# Altium integrated library Microchip PIC16 Part 2.IntLib: 1569 symbols (part 32 of 56)
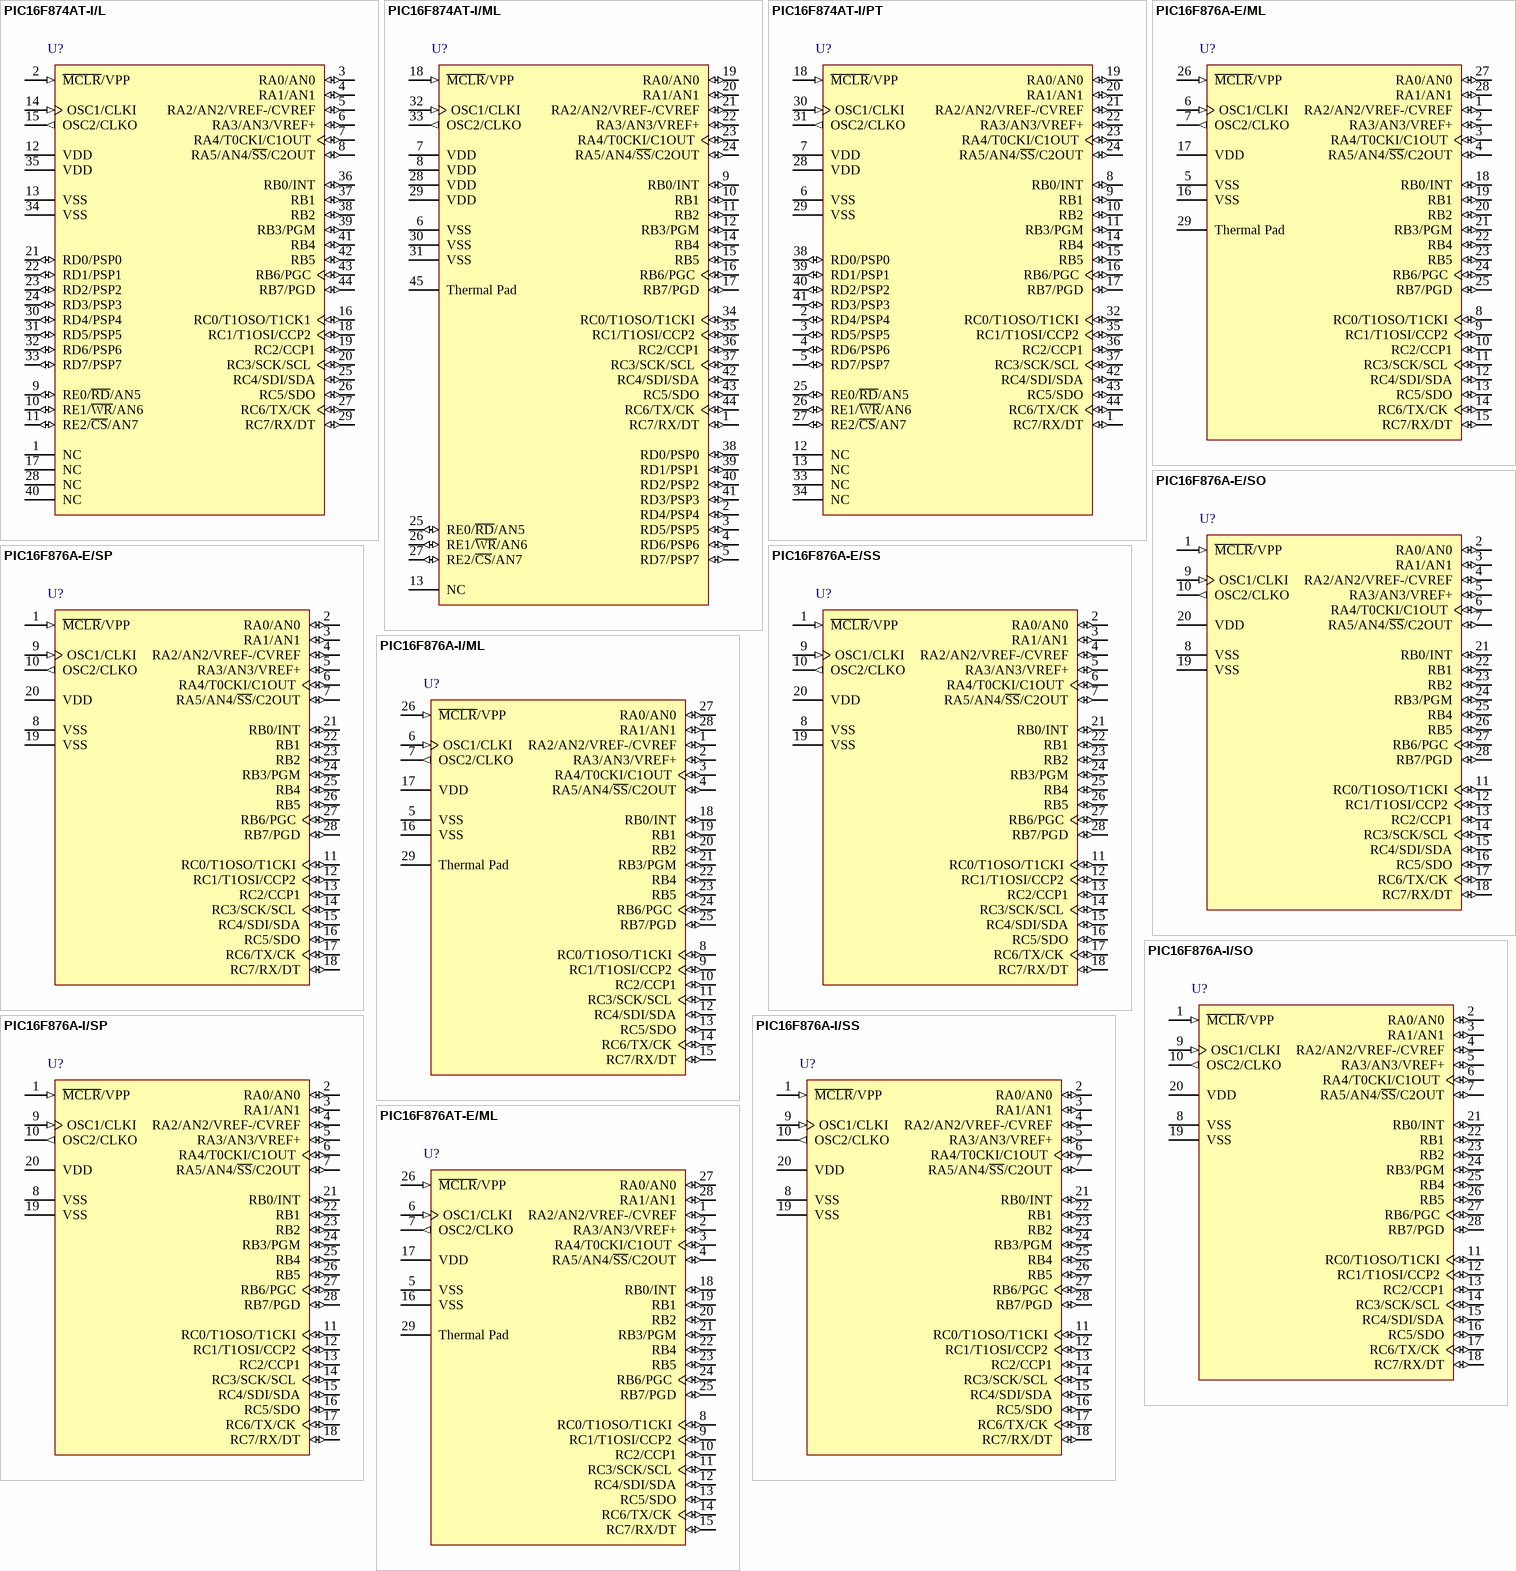
[diagram p156: symbols PIC16F874AT-I/L to PIC16F876AT-E/ML]

## PIC16F876A-E/SO
designator U?
Enhanced FLASH Microcontroller, 8K (x14-Bit words) FLASH, 368 Bytes RAM, 28-Pin SOIC, Standard VDD Range, Extended Temperature; Manufacturer: Microchip; PartNumber: PIC16F876A-E/SO; DatasheetVersion: revB, Oct-2003; PackageVersion: revBB, Aug-2009; PackageReference: SOIC-SO28; PackageDescription: 28-Lead Plastic Small Outline (SO) - Wide 7.50mm Body [SOIC]; Supplier 1: Digi-Key; Supplier Part Number 1: PIC16F876A-E/SO-ND; Supplier 2: Mouser; Supplier Part Number 2: 579-PIC16F876A-E/SO; Code_JEDEC: MS-013; ComponentLink1Description: Manufacturer URL; ComponentLink1URL: http://www.microchip.com/; ComponentLink2Description: Datasheet; ComponentLink2URL: http://ww1.microchip.com/downloads/en/DeviceDoc/39582b.pdf; ComponentLink3Description: Package Specification; ComponentLink3URL: http://www.microchip.com/stellent/groups/techpub_sg/documents/packagingspec/en012702.pdf
footprint SOIC-SO28_N (SOIC, 28-Leads, Body 17.9x7.5mm, Pitch 1.27mm, IPC Medium Density)
footprint SOIC-SO28_L (SOIC, 28-Leads, Body 17.9x7.5mm, Pitch 1.27mm, IPC High Density)
footprint SOIC-SO28_M (SOIC, 28-Leads, Body 17.9x7.5mm, Pitch 1.27mm, IPC Low Density)
pins: 1 ~{MCLR}/VPP (in), 2 RA0/AN0 (io), 3 RA1/AN1 (io), 4 RA2/AN2/VREF-/CVREF (io), 5 RA3/AN3/VREF+ (io), 6 RA4/T0CKI/C1OUT (io), 7 RA5/AN4/~{SS}/C2OUT (io), 8 VSS (power), 9 OSC1/CLKI (in), 10 OSC2/CLKO (out), 11 RC0/T1OSO/T1CKI (io), 12 RC1/T1OSI/CCP2 (io), 13 RC2/CCP1 (io), 14 RC3/SCK/SCL (io), 15 RC4/SDI/SDA (io), 16 RC5/SDO (io), 17 RC6/TX/CK (io), 18 RC7/RX/DT (io), 19 VSS (power), 20 VDD (power), 21 RB0/INT (io), 22 RB1 (io), 23 RB2 (io), 24 RB3/PGM (io), 25 RB4 (io), 26 RB5 (io), 27 RB6/PGC (io), 28 RB7/PGD (io)

## PIC16F876A-E/SP
designator U?
Enhanced FLASH Microcontroller, 8K (x14-Bit words) FLASH, 368 Bytes RAM, 28-Pin PDIP 300mil, Standard VDD Range, Extended Temperature; Manufacturer: Microchip; PartNumber: PIC16F876A-E/SP; DatasheetVersion: revB, Oct-2003; PackageVersion: revBB, Aug-2009; PackageReference: SPDIP300-SP28; PackageDescription: 28-Lead Skinny Plastic Dual In-Line (SP) - 300 mil Body [SPDIP]; Supplier 1: Digi-Key; Supplier Part Number 1: PIC16F876A-E/SP-ND; Supplier 2: Newark; Supplier Part Number 2: 92C4679; Supplier 3: Mouser; Supplier Part Number 3: 579-PIC16F876A-E/SP; ComponentLink1Description: Manufacturer URL; ComponentLink1URL: http://www.microchip.com/; ComponentLink2Description: Datasheet; ComponentLink2URL: http://ww1.microchip.com/downloads/en/DeviceDoc/39582b.pdf; ComponentLink3Description: Package Specification; ComponentLink3URL: http://www.microchip.com/stellent/groups/techpub_sg/documents/packagingspec/en012702.pdf
footprint SPDIP300-SP28 (DIP, 28-Leads, Row Spacing 7.62mm, Pitch 2.54mm, Body 34.9x6.8mm)
pins: 1 ~{MCLR}/VPP (in), 2 RA0/AN0 (io), 3 RA1/AN1 (io), 4 RA2/AN2/VREF-/CVREF (io), 5 RA3/AN3/VREF+ (io), 6 RA4/T0CKI/C1OUT (io), 7 RA5/AN4/~{SS}/C2OUT (io), 8 VSS (power), 9 OSC1/CLKI (in), 10 OSC2/CLKO (out), 11 RC0/T1OSO/T1CKI (io), 12 RC1/T1OSI/CCP2 (io), 13 RC2/CCP1 (io), 14 RC3/SCK/SCL (io), 15 RC4/SDI/SDA (io), 16 RC5/SDO (io), 17 RC6/TX/CK (io), 18 RC7/RX/DT (io), 19 VSS (power), 20 VDD (power), 21 RB0/INT (io), 22 RB1 (io), 23 RB2 (io), 24 RB3/PGM (io), 25 RB4 (io), 26 RB5 (io), 27 RB6/PGC (io), 28 RB7/PGD (io)

## PIC16F876A-E/SS
designator U?
Enhanced FLASH Microcontroller, 8K (x14-Bit words) FLASH, 368 Bytes RAM, 28-Pin SSOP, Standard VDD Range, Extended Temperature; Manufacturer: Microchip; PartNumber: PIC16F876A-E/SS; DatasheetVersion: revB, Oct-2003; PackageVersion: revBB, Aug-2009; PackageReference: SSOP-SS28; PackageDescription: 28-Lead Plastic Shrink Small Outline (SS) - 5.3mm Body [SSOP]; Supplier 1: Digi-Key; Supplier Part Number 1: PIC16F876A-E/SS-ND; Supplier 2: Mouser; Supplier Part Number 2: 579-PIC16F876A-E/SS; Code_JEDEC: MS-150; ComponentLink1Description: Manufacturer URL; ComponentLink1URL: http://www.microchip.com/; ComponentLink2Description: Datasheet; ComponentLink2URL: http://ww1.microchip.com/downloads/en/DeviceDoc/39582b.pdf; ComponentLink3Description: Package Specification; ComponentLink3URL: http://www.microchip.com/stellent/groups/techpub_sg/documents/packagingspec/en012702.pdf
footprint SSOP-SS28_N (SOP, 28-Leads, Body 10.2x5.2mm, Pitch 0.65mm, IPC Medium Density)
footprint SSOP-SS28_L (SOP, 28-Leads, Body 10.2x5.2mm, Pitch 0.65mm, IPC High Density)
footprint SSOP-SS28_M (SOP, 28-Leads, Body 10.2x5.2mm, Pitch 0.65mm, IPC Low Density)
pins: 1 ~{MCLR}/VPP (in), 2 RA0/AN0 (io), 3 RA1/AN1 (io), 4 RA2/AN2/VREF-/CVREF (io), 5 RA3/AN3/VREF+ (io), 6 RA4/T0CKI/C1OUT (io), 7 RA5/AN4/~{SS}/C2OUT (io), 8 VSS (power), 9 OSC1/CLKI (in), 10 OSC2/CLKO (out), 11 RC0/T1OSO/T1CKI (io), 12 RC1/T1OSI/CCP2 (io), 13 RC2/CCP1 (io), 14 RC3/SCK/SCL (io), 15 RC4/SDI/SDA (io), 16 RC5/SDO (io), 17 RC6/TX/CK (io), 18 RC7/RX/DT (io), 19 VSS (power), 20 VDD (power), 21 RB0/INT (io), 22 RB1 (io), 23 RB2 (io), 24 RB3/PGM (io), 25 RB4 (io), 26 RB5 (io), 27 RB6/PGC (io), 28 RB7/PGD (io)

## PIC16F876A-I/ML
designator U?
Enhanced FLASH Microcontroller, 8K (x14-Bit words) FLASH, 368 Bytes RAM, 28-Pin QFN, Standard VDD Range, Industrial Temperature; Manufacturer: Microchip; PartNumber: PIC16F876A-I/ML; DatasheetVersion: revB, Oct-2003; PackageVersion: revBB, Aug-2009; PackageReference: QFN-ML28; PackageDescription: 28-Lead Plastic Quad Flat, No Lead Package (ML) - 6x6 mm Body [QFN] with 0.55 mm Contact Length; Supplier 1: Digi-Key; Supplier Part Number 1: PIC16F876A-I/ML-ND; Supplier 2: Newark; Supplier Part Number 2: 96K3889; Supplier 3: Mouser; Supplier Part Number 3: 579-PIC16F876A-I/ML; Code_JEDEC: MO-220; ComponentLink1Description: Manufacturer URL; ComponentLink1URL: http://www.microchip.com/; ComponentLink2Description: Datasheet; ComponentLink2URL: http://ww1.microchip.com/downloads/en/DeviceDoc/39582b.pdf; ComponentLink3Description: Package Specification; ComponentLink3URL: http://www.microchip.com/stellent/groups/techpub_sg/documents/packagingspec/en012702.pdf
footprint QFN-ML28_N (QFN, 28-Leads, Body 6x6mm, Pitch 0.65mm, Thermal Pad 4.2x4.2mm, IPC Medium Density)
footprint QFN-ML28_L (QFN, 28-Leads, Body 6x6mm, Pitch 0.65mm, Thermal Pad 4.2x4.2mm, IPC High Density)
footprint QFN-ML28_M (QFN, 28-Leads, Body 6x6mm, Pitch 0.65mm, Thermal Pad 4.2x4.2mm, IPC Low Density)
pins: 1 RA2/AN2/VREF-/CVREF (io), 2 RA3/AN3/VREF+ (io), 3 RA4/T0CKI/C1OUT (io), 4 RA5/AN4/~{SS}/C2OUT (io), 5 VSS (power), 6 OSC1/CLKI (in), 7 OSC2/CLKO (out), 8 RC0/T1OSO/T1CKI (io), 9 RC1/T1OSI/CCP2 (io), 10 RC2/CCP1 (io), 11 RC3/SCK/SCL (io), 12 RC4/SDI/SDA (io), 13 RC5/SDO (io), 14 RC6/TX/CK (io), 15 RC7/RX/DT (io), 16 VSS (power), 17 VDD (power), 18 RB0/INT (io), 19 RB1 (io), 20 RB2 (io), 21 RB3/PGM (io), 22 RB4 (io), 23 RB5 (io), 24 RB6/PGC (io), 25 RB7/PGD (io), 26 ~{MCLR}/VPP (in), 27 RA0/AN0 (io), 28 RA1/AN1 (io), 29 Thermal Pad

## PIC16F876A-I/SO
designator U?
Enhanced FLASH Microcontroller, 8K (x14-Bit words) FLASH, 368 Bytes RAM, 28-Pin SOIC, Standard VDD Range, Industrial Temperature; Manufacturer: Microchip; PartNumber: PIC16F876A-I/SO; DatasheetVersion: revB, Oct-2003; PackageVersion: revBB, Aug-2009; PackageReference: SOIC-SO28; PackageDescription: 28-Lead Plastic Small Outline (SO) - Wide 7.50mm Body [SOIC]; Supplier 1: Digi-Key; Supplier Part Number 1: PIC16F876A-I/SO-ND; Supplier 2: Farnell; Supplier Part Number 2: 9761306MPKG; Supplier 3: Farnell; Supplier Part Number 3: 1660040; Supplier 4: Farnell; Supplier Part Number 4: 9761306; Supplier 5: Newark; Supplier Part Number 5: 89C2870; Supplier 6: Mouser; Supplier Part Number 6: 579-PIC16F876A-I/SO; Code_JEDEC: MS-013; ComponentLink1Description: Manufacturer URL; ComponentLink1URL: http://www.microchip.com/; ComponentLink2Description: Datasheet; ComponentLink2URL: http://ww1.microchip.com/downloads/en/DeviceDoc/39582b.pdf; ComponentLink3Description: Package Specification; ComponentLink3URL: http://www.microchip.com/stellent/groups/techpub_sg/documents/packagingspec/en012702.pdf
footprint SOIC-SO28_N (SOIC, 28-Leads, Body 17.9x7.5mm, Pitch 1.27mm, IPC Medium Density)
footprint SOIC-SO28_L (SOIC, 28-Leads, Body 17.9x7.5mm, Pitch 1.27mm, IPC High Density)
footprint SOIC-SO28_M (SOIC, 28-Leads, Body 17.9x7.5mm, Pitch 1.27mm, IPC Low Density)
pins: 1 ~{MCLR}/VPP (in), 2 RA0/AN0 (io), 3 RA1/AN1 (io), 4 RA2/AN2/VREF-/CVREF (io), 5 RA3/AN3/VREF+ (io), 6 RA4/T0CKI/C1OUT (io), 7 RA5/AN4/~{SS}/C2OUT (io), 8 VSS (power), 9 OSC1/CLKI (in), 10 OSC2/CLKO (out), 11 RC0/T1OSO/T1CKI (io), 12 RC1/T1OSI/CCP2 (io), 13 RC2/CCP1 (io), 14 RC3/SCK/SCL (io), 15 RC4/SDI/SDA (io), 16 RC5/SDO (io), 17 RC6/TX/CK (io), 18 RC7/RX/DT (io), 19 VSS (power), 20 VDD (power), 21 RB0/INT (io), 22 RB1 (io), 23 RB2 (io), 24 RB3/PGM (io), 25 RB4 (io), 26 RB5 (io), 27 RB6/PGC (io), 28 RB7/PGD (io)

## PIC16F876A-I/SP
designator U?
Enhanced FLASH Microcontroller, 8K (x14-Bit words) FLASH, 368 Bytes RAM, 28-Pin PDIP 300mil, Standard VDD Range, Industrial Temperature; Manufacturer: Microchip; PartNumber: PIC16F876A-I/SP; DatasheetVersion: revB, Oct-2003; PackageVersion: revBB, Aug-2009; PackageReference: SPDIP300-SP28; PackageDescription: 28-Lead Skinny Plastic Dual In-Line (SP) - 300 mil Body [SPDIP]; Supplier 1: Digi-Key; Supplier Part Number 1: PIC16F876A-I/SP-ND; Supplier 2: Farnell; Supplier Part Number 2: 1523962; Supplier 3: Farnell; Supplier Part Number 3: 9761314; Supplier 4: Newark; Supplier Part Number 4: 61K3462; Supplier 5: Mouser; Supplier Part Number 5: 579-PIC16F876A-I/SP; ComponentLink1Description: Manufacturer URL; ComponentLink1URL: http://www.microchip.com/; ComponentLink2Description: Datasheet; ComponentLink2URL: http://ww1.microchip.com/downloads/en/DeviceDoc/39582b.pdf; ComponentLink3Description: Package Specification; ComponentLink3URL: http://www.microchip.com/stellent/groups/techpub_sg/documents/packagingspec/en012702.pdf
footprint SPDIP300-SP28 (DIP, 28-Leads, Row Spacing 7.62mm, Pitch 2.54mm, Body 34.9x6.8mm)
pins: 1 ~{MCLR}/VPP (in), 2 RA0/AN0 (io), 3 RA1/AN1 (io), 4 RA2/AN2/VREF-/CVREF (io), 5 RA3/AN3/VREF+ (io), 6 RA4/T0CKI/C1OUT (io), 7 RA5/AN4/~{SS}/C2OUT (io), 8 VSS (power), 9 OSC1/CLKI (in), 10 OSC2/CLKO (out), 11 RC0/T1OSO/T1CKI (io), 12 RC1/T1OSI/CCP2 (io), 13 RC2/CCP1 (io), 14 RC3/SCK/SCL (io), 15 RC4/SDI/SDA (io), 16 RC5/SDO (io), 17 RC6/TX/CK (io), 18 RC7/RX/DT (io), 19 VSS (power), 20 VDD (power), 21 RB0/INT (io), 22 RB1 (io), 23 RB2 (io), 24 RB3/PGM (io), 25 RB4 (io), 26 RB5 (io), 27 RB6/PGC (io), 28 RB7/PGD (io)

## PIC16F876A-I/SS
designator U?
Enhanced FLASH Microcontroller, 8K (x14-Bit words) FLASH, 368 Bytes RAM, 28-Pin SSOP, Standard VDD Range, Industrial Temperature; Manufacturer: Microchip; PartNumber: PIC16F876A-I/SS; DatasheetVersion: revB, Oct-2003; PackageVersion: revBB, Aug-2009; PackageReference: SSOP-SS28; PackageDescription: 28-Lead Plastic Shrink Small Outline (SS) - 5.3mm Body [SSOP]; Supplier 1: Digi-Key; Supplier Part Number 1: PIC16F876A-I/SS-ND; Supplier 2: Farnell; Supplier Part Number 2: 9761322; Supplier 3: Farnell; Supplier Part Number 3: 1660041; Supplier 4: Farnell; Supplier Part Number 4: 9761322MPKG; Supplier 5: Newark; Supplier Part Number 5: 96K3890; Supplier 6: Mouser; Supplier Part Number 6: 579-PIC16F876A-I/SS; Code_JEDEC: MS-150; ComponentLink1Description: Manufacturer URL; ComponentLink1URL: http://www.microchip.com/; ComponentLink2Description: Datasheet; ComponentLink2URL: http://ww1.microchip.com/downloads/en/DeviceDoc/39582b.pdf; ComponentLink3Description: Package Specification; ComponentLink3URL: http://www.microchip.com/stellent/groups/techpub_sg/documents/packagingspec/en012702.pdf
footprint SSOP-SS28_N (SOP, 28-Leads, Body 10.2x5.2mm, Pitch 0.65mm, IPC Medium Density)
footprint SSOP-SS28_L (SOP, 28-Leads, Body 10.2x5.2mm, Pitch 0.65mm, IPC High Density)
footprint SSOP-SS28_M (SOP, 28-Leads, Body 10.2x5.2mm, Pitch 0.65mm, IPC Low Density)
pins: 1 ~{MCLR}/VPP (in), 2 RA0/AN0 (io), 3 RA1/AN1 (io), 4 RA2/AN2/VREF-/CVREF (io), 5 RA3/AN3/VREF+ (io), 6 RA4/T0CKI/C1OUT (io), 7 RA5/AN4/~{SS}/C2OUT (io), 8 VSS (power), 9 OSC1/CLKI (in), 10 OSC2/CLKO (out), 11 RC0/T1OSO/T1CKI (io), 12 RC1/T1OSI/CCP2 (io), 13 RC2/CCP1 (io), 14 RC3/SCK/SCL (io), 15 RC4/SDI/SDA (io), 16 RC5/SDO (io), 17 RC6/TX/CK (io), 18 RC7/RX/DT (io), 19 VSS (power), 20 VDD (power), 21 RB0/INT (io), 22 RB1 (io), 23 RB2 (io), 24 RB3/PGM (io), 25 RB4 (io), 26 RB5 (io), 27 RB6/PGC (io), 28 RB7/PGD (io)

## PIC16F876AT-E/ML
designator U?
Enhanced Flash Microcontroller, 8K (x14-Bit words) Program Memory, 624 Bytes Data Memory, 22 I/O pins, 28-Pin QFN, Standard VDD Range, Extended Temperature, Tape and Reel; Manufacturer: Microchip; PartNumber: PIC16F876AT-E/ML; DatasheetVersion: revB, Oct-2003; PackageVersion: revBB, Aug-2009; PackageReference: QFN-ML28; PackageDescription: 28-Lead Plastic Quad Flat, No Lead Package (ML) - 6x6 mm Body [QFN] with 0.55 mm Contact Length; Supplier 1: Digi-Key; Supplier Part Number 1: PIC16F876AT-E/ML-ND; Supplier 2: Mouser; Supplier Part Number 2: 579-PIC16F876AT-E/ML; Code_JEDEC: MO-220; ComponentLink1Description: Manufacturer URL; ComponentLink1URL: http://www.microchip.com/; ComponentLink2Description: Datasheet; ComponentLink2URL: http://ww1.microchip.com/downloads/en/DeviceDoc/39582b.pdf; ComponentLink3Description: Package Specification; ComponentLink3URL: http://www.microchip.com/stellent/groups/techpub_sg/documents/packagingspec/en012702.pdf
footprint QFN-ML28_N (QFN, 28-Leads, Body 6x6mm, Pitch 0.65mm, Thermal Pad 4.2x4.2mm, IPC Medium Density)
footprint QFN-ML28_L (QFN, 28-Leads, Body 6x6mm, Pitch 0.65mm, Thermal Pad 4.2x4.2mm, IPC High Density)
footprint QFN-ML28_M (QFN, 28-Leads, Body 6x6mm, Pitch 0.65mm, Thermal Pad 4.2x4.2mm, IPC Low Density)
pins: 1 RA2/AN2/VREF-/CVREF (io), 2 RA3/AN3/VREF+ (io), 3 RA4/T0CKI/C1OUT (io), 4 RA5/AN4/~{SS}/C2OUT (io), 5 VSS (power), 6 OSC1/CLKI (in), 7 OSC2/CLKO (out), 8 RC0/T1OSO/T1CKI (io), 9 RC1/T1OSI/CCP2 (io), 10 RC2/CCP1 (io), 11 RC3/SCK/SCL (io), 12 RC4/SDI/SDA (io), 13 RC5/SDO (io), 14 RC6/TX/CK (io), 15 RC7/RX/DT (io), 16 VSS (power), 17 VDD (power), 18 RB0/INT (io), 19 RB1 (io), 20 RB2 (io), 21 RB3/PGM (io), 22 RB4 (io), 23 RB5 (io), 24 RB6/PGC (io), 25 RB7/PGD (io), 26 ~{MCLR}/VPP (in), 27 RA0/AN0 (io), 28 RA1/AN1 (io), 29 Thermal Pad

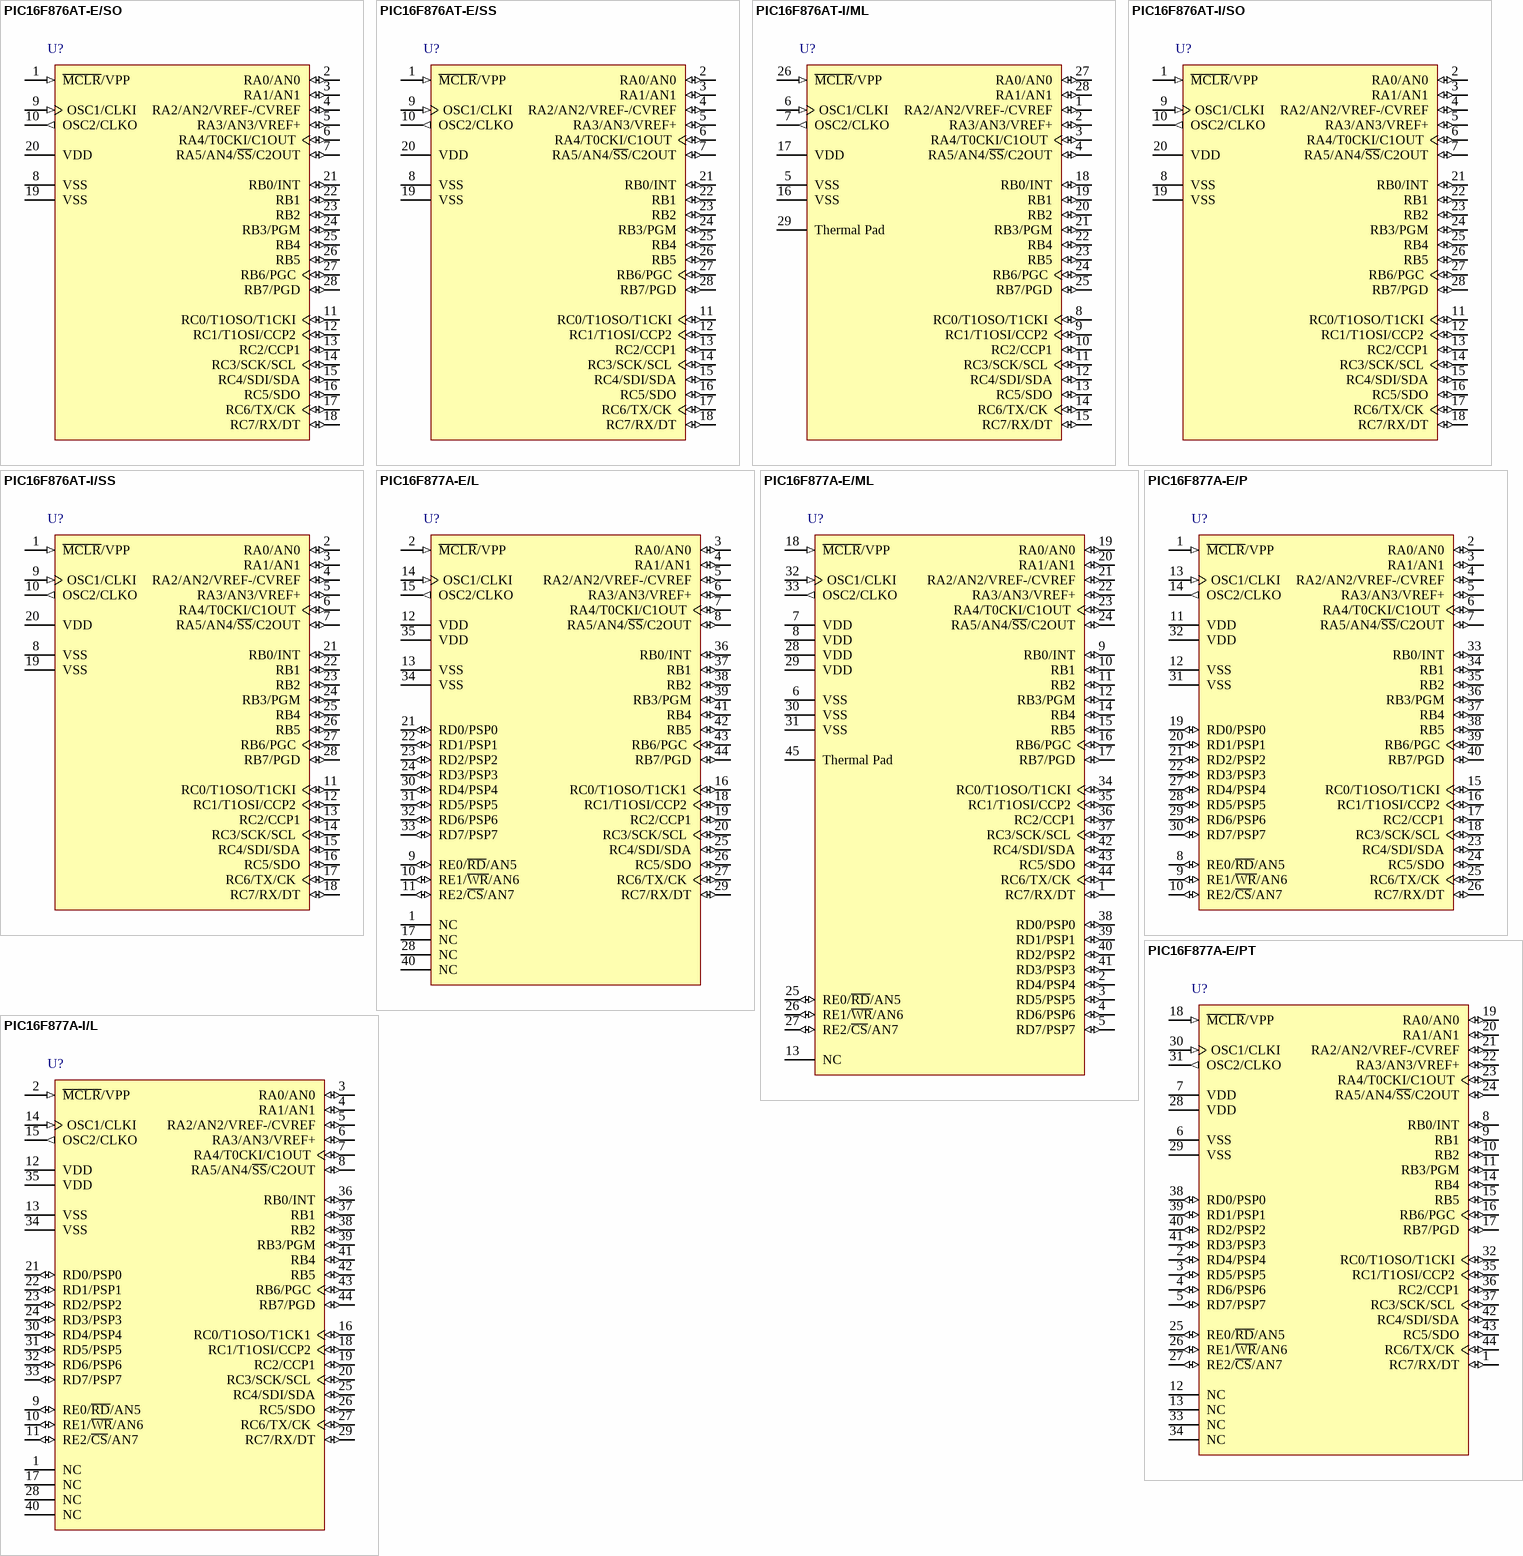
[diagram p64: symbols PIC16F876AT-E/SO to PIC16F877A-I/L]

## PIC16F876AT-E/SO
designator U?
Enhanced FLASH Microcontroller, 8K (x14-Bit words) FLASH, 368 Bytes RAM, 28-Pin SOIC, Standard VDD Range, Extended Temperature, Tape and Reel; Manufacturer: Microchip; PartNumber: PIC16F876AT-E/SO; DatasheetVersion: revB, Oct-2003; PackageVersion: revBB, Aug-2009; PackageReference: SOIC-SO28; PackageDescription: 28-Lead Plastic Small Outline (SO) - Wide 7.50mm Body [SOIC]; Supplier 1: Digi-Key; Supplier Part Number 1: PIC16F876AT-E/SO-ND; Supplier 2: Mouser; Supplier Part Number 2: 579-PIC16F876AT-E/SO; Code_JEDEC: MS-013; ComponentLink1Description: Manufacturer URL; ComponentLink1URL: http://www.microchip.com/; ComponentLink2Description: Datasheet; ComponentLink2URL: http://ww1.microchip.com/downloads/en/DeviceDoc/39582b.pdf; ComponentLink3Description: Package Specification; ComponentLink3URL: http://www.microchip.com/stellent/groups/techpub_sg/documents/packagingspec/en012702.pdf
footprint SOIC-SO28_N (SOIC, 28-Leads, Body 17.9x7.5mm, Pitch 1.27mm, IPC Medium Density)
footprint SOIC-SO28_L (SOIC, 28-Leads, Body 17.9x7.5mm, Pitch 1.27mm, IPC High Density)
footprint SOIC-SO28_M (SOIC, 28-Leads, Body 17.9x7.5mm, Pitch 1.27mm, IPC Low Density)
pins: 1 ~{MCLR}/VPP (in), 2 RA0/AN0 (io), 3 RA1/AN1 (io), 4 RA2/AN2/VREF-/CVREF (io), 5 RA3/AN3/VREF+ (io), 6 RA4/T0CKI/C1OUT (io), 7 RA5/AN4/~{SS}/C2OUT (io), 8 VSS (power), 9 OSC1/CLKI (in), 10 OSC2/CLKO (out), 11 RC0/T1OSO/T1CKI (io), 12 RC1/T1OSI/CCP2 (io), 13 RC2/CCP1 (io), 14 RC3/SCK/SCL (io), 15 RC4/SDI/SDA (io), 16 RC5/SDO (io), 17 RC6/TX/CK (io), 18 RC7/RX/DT (io), 19 VSS (power), 20 VDD (power), 21 RB0/INT (io), 22 RB1 (io), 23 RB2 (io), 24 RB3/PGM (io), 25 RB4 (io), 26 RB5 (io), 27 RB6/PGC (io), 28 RB7/PGD (io)

## PIC16F876AT-E/SS
designator U?
Enhanced Flash Microcontroller, 8K (x14-Bit words) Program Memory, 624 Bytes Data Memory, 22 I/O pins, 28-Pin SSOP, Standard VDD Range, Extended Temperature, Tape and Reel; Manufacturer: Microchip; PartNumber: PIC16F876AT-E/SS; DatasheetVersion: revB, Oct-2003; PackageVersion: revBB, Aug-2009; PackageReference: SSOP-SS28; PackageDescription: 28-Lead Plastic Shrink Small Outline (SS) - 5.3mm Body [SSOP]; Supplier 1: Digi-Key; Supplier Part Number 1: PIC16F876AT-E/SS-ND; Supplier 2: Mouser; Supplier Part Number 2: 579-PIC16F876AT-E/SS; Code_JEDEC: MS-150; ComponentLink1Description: Manufacturer URL; ComponentLink1URL: http://www.microchip.com/; ComponentLink2Description: Datasheet; ComponentLink2URL: http://ww1.microchip.com/downloads/en/DeviceDoc/39582b.pdf; ComponentLink3Description: Package Specification; ComponentLink3URL: http://www.microchip.com/stellent/groups/techpub_sg/documents/packagingspec/en012702.pdf
footprint SSOP-SS28_N (SOP, 28-Leads, Body 10.2x5.2mm, Pitch 0.65mm, IPC Medium Density)
footprint SSOP-SS28_L (SOP, 28-Leads, Body 10.2x5.2mm, Pitch 0.65mm, IPC High Density)
footprint SSOP-SS28_M (SOP, 28-Leads, Body 10.2x5.2mm, Pitch 0.65mm, IPC Low Density)
pins: 1 ~{MCLR}/VPP (in), 2 RA0/AN0 (io), 3 RA1/AN1 (io), 4 RA2/AN2/VREF-/CVREF (io), 5 RA3/AN3/VREF+ (io), 6 RA4/T0CKI/C1OUT (io), 7 RA5/AN4/~{SS}/C2OUT (io), 8 VSS (power), 9 OSC1/CLKI (in), 10 OSC2/CLKO (out), 11 RC0/T1OSO/T1CKI (io), 12 RC1/T1OSI/CCP2 (io), 13 RC2/CCP1 (io), 14 RC3/SCK/SCL (io), 15 RC4/SDI/SDA (io), 16 RC5/SDO (io), 17 RC6/TX/CK (io), 18 RC7/RX/DT (io), 19 VSS (power), 20 VDD (power), 21 RB0/INT (io), 22 RB1 (io), 23 RB2 (io), 24 RB3/PGM (io), 25 RB4 (io), 26 RB5 (io), 27 RB6/PGC (io), 28 RB7/PGD (io)

## PIC16F876AT-I/ML
designator U?
Enhanced Flash Microcontroller, 8K (x14-Bit words) Program Memory, 624 Bytes Data Memory, 22 I/O pins, 28-Pin QFN, Standard VDD Range, Industrial Temperature, Tape and Reel; Manufacturer: Microchip; PartNumber: PIC16F876AT-I/ML; DatasheetVersion: revB, Oct-2003; PackageVersion: revBB, Aug-2009; PackageReference: QFN-ML28; PackageDescription: 28-Lead Plastic Quad Flat, No Lead Package (ML) - 6x6 mm Body [QFN] with 0.55 mm Contact Length; Supplier 1: Digi-Key; Supplier Part Number 1: PIC16F876AT-I/ML-ND; Supplier 2: Mouser; Supplier Part Number 2: 579-PIC16F876AT-I/ML; Code_JEDEC: MO-220; ComponentLink1Description: Manufacturer URL; ComponentLink1URL: http://www.microchip.com/; ComponentLink2Description: Datasheet; ComponentLink2URL: http://ww1.microchip.com/downloads/en/DeviceDoc/39582b.pdf; ComponentLink3Description: Package Specification; ComponentLink3URL: http://www.microchip.com/stellent/groups/techpub_sg/documents/packagingspec/en012702.pdf
footprint QFN-ML28_N (QFN, 28-Leads, Body 6x6mm, Pitch 0.65mm, Thermal Pad 4.2x4.2mm, IPC Medium Density)
footprint QFN-ML28_L (QFN, 28-Leads, Body 6x6mm, Pitch 0.65mm, Thermal Pad 4.2x4.2mm, IPC High Density)
footprint QFN-ML28_M (QFN, 28-Leads, Body 6x6mm, Pitch 0.65mm, Thermal Pad 4.2x4.2mm, IPC Low Density)
pins: 1 RA2/AN2/VREF-/CVREF (io), 2 RA3/AN3/VREF+ (io), 3 RA4/T0CKI/C1OUT (io), 4 RA5/AN4/~{SS}/C2OUT (io), 5 VSS (power), 6 OSC1/CLKI (in), 7 OSC2/CLKO (out), 8 RC0/T1OSO/T1CKI (io), 9 RC1/T1OSI/CCP2 (io), 10 RC2/CCP1 (io), 11 RC3/SCK/SCL (io), 12 RC4/SDI/SDA (io), 13 RC5/SDO (io), 14 RC6/TX/CK (io), 15 RC7/RX/DT (io), 16 VSS (power), 17 VDD (power), 18 RB0/INT (io), 19 RB1 (io), 20 RB2 (io), 21 RB3/PGM (io), 22 RB4 (io), 23 RB5 (io), 24 RB6/PGC (io), 25 RB7/PGD (io), 26 ~{MCLR}/VPP (in), 27 RA0/AN0 (io), 28 RA1/AN1 (io), 29 Thermal Pad

## PIC16F876AT-I/SO
designator U?
Enhanced FLASH Microcontroller, 8K (x14-Bit words) FLASH, 368 Bytes RAM, 28-Pin SOIC, Standard VDD Range, Industrial Temperature, Tape and Reel; Manufacturer: Microchip; PartNumber: PIC16F876AT-I/SO; DatasheetVersion: revB, Oct-2003; PackageVersion: revBB, Aug-2009; PackageReference: SOIC-SO28; PackageDescription: 28-Lead Plastic Small Outline (SO) - Wide 7.50mm Body [SOIC]; Supplier 1: Digi-Key; Supplier Part Number 1: PIC16F876AT-I/SO-ND; Supplier 2: Mouser; Supplier Part Number 2: 579-PIC16F876AT-I/SO; Code_JEDEC: MS-013; ComponentLink1Description: Manufacturer URL; ComponentLink1URL: http://www.microchip.com/; ComponentLink2Description: Datasheet; ComponentLink2URL: http://ww1.microchip.com/downloads/en/DeviceDoc/39582b.pdf; ComponentLink3Description: Package Specification; ComponentLink3URL: http://www.microchip.com/stellent/groups/techpub_sg/documents/packagingspec/en012702.pdf
footprint SOIC-SO28_N (SOIC, 28-Leads, Body 17.9x7.5mm, Pitch 1.27mm, IPC Medium Density)
footprint SOIC-SO28_L (SOIC, 28-Leads, Body 17.9x7.5mm, Pitch 1.27mm, IPC High Density)
footprint SOIC-SO28_M (SOIC, 28-Leads, Body 17.9x7.5mm, Pitch 1.27mm, IPC Low Density)
pins: 1 ~{MCLR}/VPP (in), 2 RA0/AN0 (io), 3 RA1/AN1 (io), 4 RA2/AN2/VREF-/CVREF (io), 5 RA3/AN3/VREF+ (io), 6 RA4/T0CKI/C1OUT (io), 7 RA5/AN4/~{SS}/C2OUT (io), 8 VSS (power), 9 OSC1/CLKI (in), 10 OSC2/CLKO (out), 11 RC0/T1OSO/T1CKI (io), 12 RC1/T1OSI/CCP2 (io), 13 RC2/CCP1 (io), 14 RC3/SCK/SCL (io), 15 RC4/SDI/SDA (io), 16 RC5/SDO (io), 17 RC6/TX/CK (io), 18 RC7/RX/DT (io), 19 VSS (power), 20 VDD (power), 21 RB0/INT (io), 22 RB1 (io), 23 RB2 (io), 24 RB3/PGM (io), 25 RB4 (io), 26 RB5 (io), 27 RB6/PGC (io), 28 RB7/PGD (io)

## PIC16F876AT-I/SS
designator U?
Enhanced Flash Microcontroller, 8K (x14-Bit words) Program Memory, 624 Bytes Data Memory, 22 I/O pins, 28-Pin SSOP, Standard VDD Range, Industrial Temperature, Tape and Reel; Manufacturer: Microchip; PartNumber: PIC16F876AT-I/SS; DatasheetVersion: revB, Oct-2003; PackageVersion: revBB, Aug-2009; PackageReference: SSOP-SS28; PackageDescription: 28-Lead Plastic Shrink Small Outline (SS) - 5.3mm Body [SSOP]; Supplier 1: Digi-Key; Supplier Part Number 1: PIC16F876AT-I/SS-ND; Supplier 2: Mouser; Supplier Part Number 2: 579-PIC16F876AT-I/SS; Code_JEDEC: MS-150; ComponentLink1Description: Manufacturer URL; ComponentLink1URL: http://www.microchip.com/; ComponentLink2Description: Datasheet; ComponentLink2URL: http://ww1.microchip.com/downloads/en/DeviceDoc/39582b.pdf; ComponentLink3Description: Package Specification; ComponentLink3URL: http://www.microchip.com/stellent/groups/techpub_sg/documents/packagingspec/en012702.pdf
footprint SSOP-SS28_N (SOP, 28-Leads, Body 10.2x5.2mm, Pitch 0.65mm, IPC Medium Density)
footprint SSOP-SS28_L (SOP, 28-Leads, Body 10.2x5.2mm, Pitch 0.65mm, IPC High Density)
footprint SSOP-SS28_M (SOP, 28-Leads, Body 10.2x5.2mm, Pitch 0.65mm, IPC Low Density)
pins: 1 ~{MCLR}/VPP (in), 2 RA0/AN0 (io), 3 RA1/AN1 (io), 4 RA2/AN2/VREF-/CVREF (io), 5 RA3/AN3/VREF+ (io), 6 RA4/T0CKI/C1OUT (io), 7 RA5/AN4/~{SS}/C2OUT (io), 8 VSS (power), 9 OSC1/CLKI (in), 10 OSC2/CLKO (out), 11 RC0/T1OSO/T1CKI (io), 12 RC1/T1OSI/CCP2 (io), 13 RC2/CCP1 (io), 14 RC3/SCK/SCL (io), 15 RC4/SDI/SDA (io), 16 RC5/SDO (io), 17 RC6/TX/CK (io), 18 RC7/RX/DT (io), 19 VSS (power), 20 VDD (power), 21 RB0/INT (io), 22 RB1 (io), 23 RB2 (io), 24 RB3/PGM (io), 25 RB4 (io), 26 RB5 (io), 27 RB6/PGC (io), 28 RB7/PGD (io)

## PIC16F877A-E/L
designator U?
Enhanced FLASH Microcontroller, 8K (x14-Bit words) FLASH, 368 Bytes RAM, 44-Pin PLCC, Standard VDD Range, Extended Temperature; Manufacturer: Microchip; PartNumber: PIC16F877A-E/L; Note: Connect thermal vias to inner or bottom layers to remove heat.; DatasheetVersion: revB, Oct-2003; PackageVersion: revBB, Aug-2009; PackageReference: PLCC-L44; PackageDescription: 44-Lead Plastic Leaded Chip Carrier (L) - Square [PLCC]; Supplier 1: Digi-Key; Supplier Part Number 1: PIC16F877A-E/L-ND; Supplier 2: Mouser; Supplier Part Number 2: 579-PIC16F877A-E/L; Code_JEDEC: MO-047; Code_IPC: PLCC-44; ComponentLink1Description: Manufacturer URL; ComponentLink1URL: http://www.microchip.com/; ComponentLink2Description: Datasheet; ComponentLink2URL: http://ww1.microchip.com/downloads/en/DeviceDoc/39582b.pdf; ComponentLink3Description: Package Specification; ComponentLink3URL: http://www.microchip.com/stellent/groups/techpub_sg/documents/packagingspec/en012702.pdf
footprint PLCC-L44_N (Leaded Chip Carrier, 44-Leads, Body 16.6x16.6mm, Pitch 1.27mm, IPC Medium Density)
footprint PLCC-L44_L (Leaded Chip Carrier, 44-Leads, Body 16.6x16.6mm, Pitch 1.27mm, IPC High Density)
footprint PLCC-L44_M (Leaded Chip Carrier, 44-Leads, Body 16.6x16.6mm, Pitch 1.27mm, IPC Low Density)
pins: 1 NC, 2 ~{MCLR}/VPP (in), 3 RA0/AN0 (io), 4 RA1/AN1 (io), 5 RA2/AN2/VREF-/CVREF (io), 6 RA3/AN3/VREF+ (io), 7 RA4/T0CKI/C1OUT (io), 8 RA5/AN4/~{SS}/C2OUT (io), 9 RE0/~{RD}/AN5 (io), 10 RE1/~{WR}/AN6 (io), 11 RE2/~{CS}/AN7 (io), 12 VDD (power), 13 VSS (power), 14 OSC1/CLKI (in), 15 OSC2/CLKO (out), 16 RC0/T1OSO/T1CK1 (io), 17 NC, 18 RC1/T1OSI/CCP2 (io), 19 RC2/CCP1 (io), 20 RC3/SCK/SCL (io), 21 RD0/PSP0 (io), 22 RD1/PSP1 (io), 23 RD2/PSP2 (io), 24 RD3/PSP3 (io), 25 RC4/SDI/SDA (io), 26 RC5/SDO (io), 27 RC6/TX/CK (io), 28 NC, 29 RC7/RX/DT (io), 30 RD4/PSP4 (io), 31 RD5/PSP5 (io), 32 RD6/PSP6 (io), 33 RD7/PSP7 (io), 34 VSS (power), 35 VDD (power), 36 RB0/INT (io), 37 RB1 (io), 38 RB2 (io), 39 RB3/PGM (io), 40 NC, 41 RB4 (io), 42 RB5 (io), 43 RB6/PGC (io), 44 RB7/PGD (io)

## PIC16F877A-E/ML
designator U?
Enhanced FLASH Microcontroller, 8K (x14-Bit words) FLASH, 368 Bytes RAM, 44-Pin QFN, Standard VDD Range, Extended Temperature; Manufacturer: Microchip; PartNumber: PIC16F877A-E/ML; DatasheetVersion: revB, Oct-2003; PackageVersion: revBB, Aug-2009; PackageReference: QFN-ML44; PackageDescription: 44-Lead Plastic Quad Flat, No Lead Package (ML) - 8x8 mm Body [QFN]; Supplier 1: Digi-Key; Supplier Part Number 1: PIC16F877A-E/ML-ND; Supplier 2: Mouser; Supplier Part Number 2: 579-PIC16F877A-E/ML; Code_JEDEC: MO-220; Code_IPC: QFN65P800X800-44V2; ComponentLink1Description: Manufacturer URL; ComponentLink1URL: http://www.microchip.com/; ComponentLink2Description: Datasheet; ComponentLink2URL: http://ww1.microchip.com/downloads/en/DeviceDoc/39582b.pdf; ComponentLink3Description: Package Specification; ComponentLink3URL: http://www.microchip.com/stellent/groups/techpub_sg/documents/packagingspec/en012702.pdf
footprint QFN-ML44_N (QFN, 44-Leads, Body 8x8mm, Pitch 0.65mm, Thermal Pad 6.8x6.8mm, IPC Medium Density)
footprint QFN-ML44_L (QFN, 44-Leads, Body 8x8mm, Pitch 0.65mm, Thermal Pad 6.8x6.8mm, IPC High Density)
footprint QFN-ML44_M (QFN, 44-Leads, Body 8x8mm, Pitch 0.65mm, Thermal Pad 6.8x6.8mm, IPC Low Density)
pins: 1 RC7/RX/DT (io), 2 RD4/PSP4 (io), 3 RD5/PSP5 (io), 4 RD6/PSP6 (io), 5 RD7/PSP7 (io), 6 VSS (power), 7 VDD (power), 8 VDD (power), 9 RB0/INT (io), 10 RB1 (io), 11 RB2 (io), 12 RB3/PGM (io), 13 NC, 14 RB4 (io), 15 RB5 (io), 16 RB6/PGC (io), 17 RB7/PGD (io), 18 ~{MCLR}/VPP (in), 19 RA0/AN0 (io), 20 RA1/AN1 (io), 21 RA2/AN2/VREF-/CVREF (io), 22 RA3/AN3/VREF+ (io), 23 RA4/T0CKI/C1OUT (io), 24 RA5/AN4/~{SS}/C2OUT (io), 25 RE0/~{RD}/AN5 (io), 26 RE1/~{WR}/AN6 (io), 27 RE2/~{CS}/AN7 (io), 28 VDD (power), 29 VDD (power), 30 VSS (power), 31 VSS (power), 32 OSC1/CLKI (in), 33 OSC2/CLKO (out), 34 RC0/T1OSO/T1CKI (io), 35 RC1/T1OSI/CCP2 (io), 36 RC2/CCP1 (io), 37 RC3/SCK/SCL (io), 38 RD0/PSP0 (io), 39 RD1/PSP1 (io), 40 RD2/PSP2 (io), 41 RD3/PSP3 (io), 42 RC4/SDI/SDA (io), 43 RC5/SDO (io), 44 RC6/TX/CK (io), 45 Thermal Pad

## PIC16F877A-E/P
designator U?
Enhanced FLASH Microcontroller, 8K (x14-Bit words) FLASH, 368 Bytes RAM, 40-Pin PDIP, Standard VDD Range, Extended Temperature; Manufacturer: Microchip; PartNumber: PIC16F877A-E/P; DatasheetVersion: revB, Oct-2003; PackageVersion: revBB, Aug-2009; PackageReference: PDIP600-P40; PackageDescription: 40-Lead Plastic Dual In-Line (P) - 600 mil Body [PDIP]; Supplier 1: Digi-Key; Supplier Part Number 1: PIC16F877A-E/P-ND; Supplier 2: Newark; Supplier Part Number 2: 92C4704; Supplier 3: Mouser; Supplier Part Number 3: 579-PIC16F877A-E/P; ComponentLink1Description: Manufacturer URL; ComponentLink1URL: http://www.microchip.com/; ComponentLink2Description: Datasheet; ComponentLink2URL: http://ww1.microchip.com/downloads/en/DeviceDoc/39582b.pdf; ComponentLink3Description: Package Specification; ComponentLink3URL: http://www.microchip.com/stellent/groups/techpub_sg/documents/packagingspec/en012702.pdf
footprint PDIP600-P40 (DIP, 40-Leads, Row Spacing 15.24mm, Pitch 2.54mm, Body 51.8x13.5mm)
pins: 1 ~{MCLR}/VPP (in), 2 RA0/AN0 (io), 3 RA1/AN1 (io), 4 RA2/AN2/VREF-/CVREF (io), 5 RA3/AN3/VREF+ (io), 6 RA4/T0CKI/C1OUT (io), 7 RA5/AN4/~{SS}/C2OUT (io), 8 RE0/~{RD}/AN5 (io), 9 RE1/~{WR}/AN6 (io), 10 RE2/~{CS}/AN7 (io), 11 VDD (power), 12 VSS (power), 13 OSC1/CLKI (in), 14 OSC2/CLKO (out), 15 RC0/T1OSO/T1CKI (io), 16 RC1/T1OSI/CCP2 (io), 17 RC2/CCP1 (io), 18 RC3/SCK/SCL (io), 19 RD0/PSP0 (io), 20 RD1/PSP1 (io), 21 RD2/PSP2 (io), 22 RD3/PSP3 (io), 23 RC4/SDI/SDA (io), 24 RC5/SDO (io), 25 RC6/TX/CK (io), 26 RC7/RX/DT (io), 27 RD4/PSP4 (io), 28 RD5/PSP5 (io), 29 RD6/PSP6 (io), 30 RD7/PSP7 (io), 31 VSS (power), 32 VDD (power), 33 RB0/INT (io), 34 RB1 (io), 35 RB2 (io), 36 RB3/PGM (io), 37 RB4 (io), 38 RB5 (io), 39 RB6/PGC (io), 40 RB7/PGD (io)

## PIC16F877A-E/PT
designator U?
Enhanced FLASH Microcontroller, 8K (x14-Bit words) FLASH, 368 Bytes RAM, 44-Pin TQFP, Standard VDD Range, Extended Temperature; Manufacturer: Microchip; PartNumber: PIC16F877A-E/PT; DatasheetVersion: revB, Oct-2003; PackageVersion: revBB, Aug-2009; PackageReference: TQFP-PT44; PackageDescription: 44-Lead Plastic Thin Quad Flatpack (PT) - 10x10x1mm Body, 2.00mm [TQFP]; Supplier 1: Digi-Key; Supplier Part Number 1: PIC16F877A-E/PT-ND; Supplier 2: Newark; Supplier Part Number 2: 92C4705; Supplier 3: Mouser; Supplier Part Number 3: 579-PIC16F877A-E/PT; Code_JEDEC: MS-026; ComponentLink1Description: Manufacturer URL; ComponentLink1URL: http://www.microchip.com/; ComponentLink2Description: Datasheet; ComponentLink2URL: http://ww1.microchip.com/downloads/en/DeviceDoc/39582b.pdf; ComponentLink3Description: Package Specification; ComponentLink3URL: http://www.microchip.com/stellent/groups/techpub_sg/documents/packagingspec/en012702.pdf
footprint TQFP-PT44_N (Thin QFP, 44-Leads, Body 10x10mm, Pitch 0.8mm, IPC Medium Density)
footprint TQFP-PT44_L (Thin QFP, 44-Leads, Body 10x10mm, Pitch 0.8mm, IPC High Density)
footprint TQFP-PT44_M (Thin QFP, 44-Leads, Body 10x10mm, Pitch 0.8mm, IPC Low Density)
pins: 1 RC7/RX/DT (io), 2 RD4/PSP4 (io), 3 RD5/PSP5 (io), 4 RD6/PSP6 (io), 5 RD7/PSP7 (io), 6 VSS (power), 7 VDD (power), 8 RB0/INT (io), 9 RB1 (io), 10 RB2 (io), 11 RB3/PGM (io), 12 NC, 13 NC, 14 RB4 (io), 15 RB5 (io), 16 RB6/PGC (io), 17 RB7/PGD (io), 18 ~{MCLR}/VPP (in), 19 RA0/AN0 (io), 20 RA1/AN1 (io), 21 RA2/AN2/VREF-/CVREF (io), 22 RA3/AN3/VREF+ (io), 23 RA4/T0CKI/C1OUT (io), 24 RA5/AN4/~{SS}/C2OUT (io), 25 RE0/~{RD}/AN5 (io), 26 RE1/~{WR}/AN6 (io), 27 RE2/~{CS}/AN7 (io), 28 VDD (power), 29 VSS (power), 30 OSC1/CLKI (in), 31 OSC2/CLKO (out), 32 RC0/T1OSO/T1CKI (io), 33 NC, 34 NC, 35 RC1/T1OSI/CCP2 (io), 36 RC2/CCP1 (io), 37 RC3/SCK/SCL (io), 38 RD0/PSP0 (io), 39 RD1/PSP1 (io), 40 RD2/PSP2 (io), 41 RD3/PSP3 (io), 42 RC4/SDI/SDA (io), 43 RC5/SDO (io), 44 RC6/TX/CK (io)

## PIC16F877A-I/L
designator U?
Enhanced FLASH Microcontroller, 8K (x14-Bit words) FLASH, 368 Bytes RAM, 44-Pin PLCC, Standard VDD Range, Industrial Temperature; Manufacturer: Microchip; PartNumber: PIC16F877A-I/L; Note: Connect thermal vias to inner or bottom layers to remove heat.; DatasheetVersion: revB, Oct-2003; PackageVersion: revBB, Aug-2009; PackageReference: PLCC-L44; PackageDescription: 44-Lead Plastic Leaded Chip Carrier (L) - Square [PLCC]; Supplier 1: Digi-Key; Supplier Part Number 1: PIC16F877A-I/L-ND; Supplier 2: Farnell; Supplier Part Number 2: 9761438; Supplier 3: Farnell; Supplier Part Number 3: 9761438MPKG; Supplier 4: Farnell; Supplier Part Number 4: 1660043; Supplier 5: Newark; Supplier Part Number 5: 89C2872; Supplier 6: Mouser; Supplier Part Number 6: 579-PIC16F877A-I/L; Code_JEDEC: MO-047; Code_IPC: PLCC-44; ComponentLink1Description: Manufacturer URL; ComponentLink1URL: http://www.microchip.com/; ComponentLink2Description: Datasheet; ComponentLink2URL: http://ww1.microchip.com/downloads/en/DeviceDoc/39582b.pdf; ComponentLink3Description: Package Specification; ComponentLink3URL: http://www.microchip.com/stellent/groups/techpub_sg/documents/packagingspec/en012702.pdf
footprint PLCC-L44_N (Leaded Chip Carrier, 44-Leads, Body 16.6x16.6mm, Pitch 1.27mm, IPC Medium Density)
footprint PLCC-L44_L (Leaded Chip Carrier, 44-Leads, Body 16.6x16.6mm, Pitch 1.27mm, IPC High Density)
footprint PLCC-L44_M (Leaded Chip Carrier, 44-Leads, Body 16.6x16.6mm, Pitch 1.27mm, IPC Low Density)
pins: 1 NC, 2 ~{MCLR}/VPP (in), 3 RA0/AN0 (io), 4 RA1/AN1 (io), 5 RA2/AN2/VREF-/CVREF (io), 6 RA3/AN3/VREF+ (io), 7 RA4/T0CKI/C1OUT (io), 8 RA5/AN4/~{SS}/C2OUT (io), 9 RE0/~{RD}/AN5 (io), 10 RE1/~{WR}/AN6 (io), 11 RE2/~{CS}/AN7 (io), 12 VDD (power), 13 VSS (power), 14 OSC1/CLKI (in), 15 OSC2/CLKO (out), 16 RC0/T1OSO/T1CK1 (io), 17 NC, 18 RC1/T1OSI/CCP2 (io), 19 RC2/CCP1 (io), 20 RC3/SCK/SCL (io), 21 RD0/PSP0 (io), 22 RD1/PSP1 (io), 23 RD2/PSP2 (io), 24 RD3/PSP3 (io), 25 RC4/SDI/SDA (io), 26 RC5/SDO (io), 27 RC6/TX/CK (io), 28 NC, 29 RC7/RX/DT (io), 30 RD4/PSP4 (io), 31 RD5/PSP5 (io), 32 RD6/PSP6 (io), 33 RD7/PSP7 (io), 34 VSS (power), 35 VDD (power), 36 RB0/INT (io), 37 RB1 (io), 38 RB2 (io), 39 RB3/PGM (io), 40 NC, 41 RB4 (io), 42 RB5 (io), 43 RB6/PGC (io), 44 RB7/PGD (io)

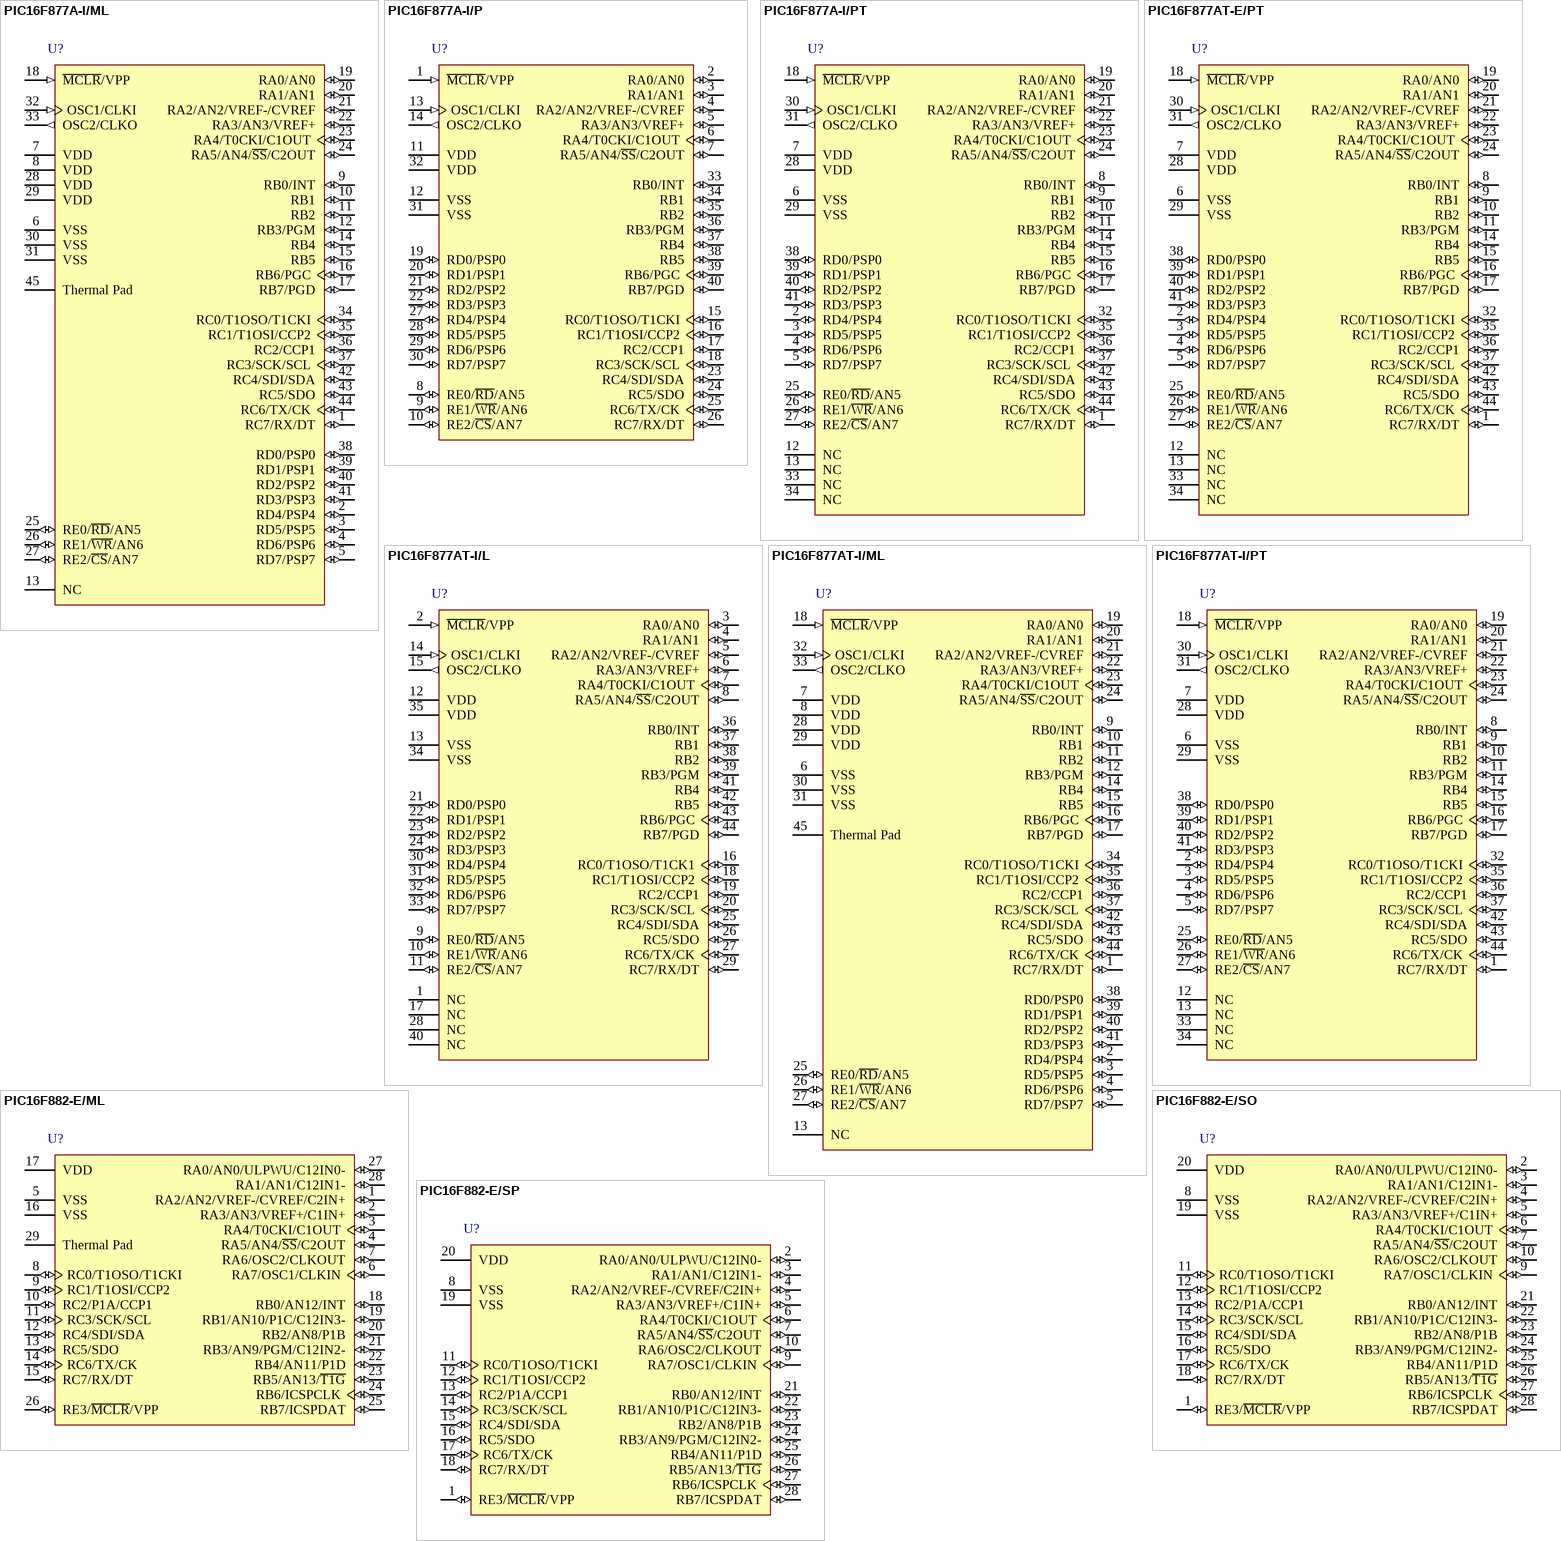
[diagram p65: symbols PIC16F877A-I/ML to PIC16F882-E/SP]

## PIC16F877A-I/ML
designator U?
Enhanced FLASH Microcontroller, 8K (x14-Bit words) FLASH, 368 Bytes RAM, 44-Pin QFN, Standard VDD Range, Industrial Temperature; Manufacturer: Microchip; PartNumber: PIC16F877A-I/ML; DatasheetVersion: revB, Oct-2003; PackageVersion: revBB, Aug-2009; PackageReference: QFN-ML44; PackageDescription: 44-Lead Plastic Quad Flat, No Lead Package (ML) - 8x8 mm Body [QFN]; Supplier 1: Digi-Key; Supplier Part Number 1: PIC16F877A-I/ML-ND; Supplier 2: Newark; Supplier Part Number 2: 29H9661; Supplier 3: Mouser; Supplier Part Number 3: 579-PIC16F877A-I/ML; Code_JEDEC: MO-220; Code_IPC: QFN65P800X800-44V2; ComponentLink1Description: Manufacturer URL; ComponentLink1URL: http://www.microchip.com/; ComponentLink2Description: Datasheet; ComponentLink2URL: http://ww1.microchip.com/downloads/en/DeviceDoc/39582b.pdf; ComponentLink3Description: Package Specification; ComponentLink3URL: http://www.microchip.com/stellent/groups/techpub_sg/documents/packagingspec/en012702.pdf
footprint QFN-ML44_N (QFN, 44-Leads, Body 8x8mm, Pitch 0.65mm, Thermal Pad 6.8x6.8mm, IPC Medium Density)
footprint QFN-ML44_L (QFN, 44-Leads, Body 8x8mm, Pitch 0.65mm, Thermal Pad 6.8x6.8mm, IPC High Density)
footprint QFN-ML44_M (QFN, 44-Leads, Body 8x8mm, Pitch 0.65mm, Thermal Pad 6.8x6.8mm, IPC Low Density)
pins: 1 RC7/RX/DT (io), 2 RD4/PSP4 (io), 3 RD5/PSP5 (io), 4 RD6/PSP6 (io), 5 RD7/PSP7 (io), 6 VSS (power), 7 VDD (power), 8 VDD (power), 9 RB0/INT (io), 10 RB1 (io), 11 RB2 (io), 12 RB3/PGM (io), 13 NC, 14 RB4 (io), 15 RB5 (io), 16 RB6/PGC (io), 17 RB7/PGD (io), 18 ~{MCLR}/VPP (in), 19 RA0/AN0 (io), 20 RA1/AN1 (io), 21 RA2/AN2/VREF-/CVREF (io), 22 RA3/AN3/VREF+ (io), 23 RA4/T0CKI/C1OUT (io), 24 RA5/AN4/~{SS}/C2OUT (io), 25 RE0/~{RD}/AN5 (io), 26 RE1/~{WR}/AN6 (io), 27 RE2/~{CS}/AN7 (io), 28 VDD (power), 29 VDD (power), 30 VSS (power), 31 VSS (power), 32 OSC1/CLKI (in), 33 OSC2/CLKO (out), 34 RC0/T1OSO/T1CKI (io), 35 RC1/T1OSI/CCP2 (io), 36 RC2/CCP1 (io), 37 RC3/SCK/SCL (io), 38 RD0/PSP0 (io), 39 RD1/PSP1 (io), 40 RD2/PSP2 (io), 41 RD3/PSP3 (io), 42 RC4/SDI/SDA (io), 43 RC5/SDO (io), 44 RC6/TX/CK (io), 45 Thermal Pad

## PIC16F877A-I/P
designator U?
Enhanced FLASH Microcontroller, 8K (x14-Bit words) FLASH, 368 Bytes RAM, 40-Pin PDIP, Standard VDD Range, Industrial Temperature; Manufacturer: Microchip; PartNumber: PIC16F877A-I/P; DatasheetVersion: revB, Oct-2003; PackageVersion: revBB, Aug-2009; PackageReference: PDIP600-P40; PackageDescription: 40-Lead Plastic Dual In-Line (P) - 600 mil Body [PDIP]; Supplier 1: Digi-Key; Supplier Part Number 1: PIC16F877A-I/P-ND; Supplier 2: Farnell; Supplier Part Number 2: 9761446; Supplier 3: Farnell; Supplier Part Number 3: 1523966; Supplier 4: Newark; Supplier Part Number 4: 69K7640; Supplier 5: Mouser; Supplier Part Number 5: 579-PIC16F877A-I/P; ComponentLink1Description: Manufacturer URL; ComponentLink1URL: http://www.microchip.com/; ComponentLink2Description: Datasheet; ComponentLink2URL: http://ww1.microchip.com/downloads/en/DeviceDoc/39582b.pdf; ComponentLink3Description: Package Specification; ComponentLink3URL: http://www.microchip.com/stellent/groups/techpub_sg/documents/packagingspec/en012702.pdf
footprint PDIP600-P40 (DIP, 40-Leads, Row Spacing 15.24mm, Pitch 2.54mm, Body 51.8x13.5mm)
pins: 1 ~{MCLR}/VPP (in), 2 RA0/AN0 (io), 3 RA1/AN1 (io), 4 RA2/AN2/VREF-/CVREF (io), 5 RA3/AN3/VREF+ (io), 6 RA4/T0CKI/C1OUT (io), 7 RA5/AN4/~{SS}/C2OUT (io), 8 RE0/~{RD}/AN5 (io), 9 RE1/~{WR}/AN6 (io), 10 RE2/~{CS}/AN7 (io), 11 VDD (power), 12 VSS (power), 13 OSC1/CLKI (in), 14 OSC2/CLKO (out), 15 RC0/T1OSO/T1CKI (io), 16 RC1/T1OSI/CCP2 (io), 17 RC2/CCP1 (io), 18 RC3/SCK/SCL (io), 19 RD0/PSP0 (io), 20 RD1/PSP1 (io), 21 RD2/PSP2 (io), 22 RD3/PSP3 (io), 23 RC4/SDI/SDA (io), 24 RC5/SDO (io), 25 RC6/TX/CK (io), 26 RC7/RX/DT (io), 27 RD4/PSP4 (io), 28 RD5/PSP5 (io), 29 RD6/PSP6 (io), 30 RD7/PSP7 (io), 31 VSS (power), 32 VDD (power), 33 RB0/INT (io), 34 RB1 (io), 35 RB2 (io), 36 RB3/PGM (io), 37 RB4 (io), 38 RB5 (io), 39 RB6/PGC (io), 40 RB7/PGD (io)

## PIC16F877A-I/PT
designator U?
Enhanced FLASH Microcontroller, 8K (x14-Bit words) FLASH, 368 Bytes RAM, 44-Pin TQFP, Standard VDD Range, Industrial Temperature; Manufacturer: Microchip; PartNumber: PIC16F877A-I/PT; DatasheetVersion: revB, Oct-2003; PackageVersion: revBB, Aug-2009; PackageReference: TQFP-PT44; PackageDescription: 44-Lead Plastic Thin Quad Flatpack (PT) - 10x10x1mm Body, 2.00mm [TQFP]; Supplier 1: Digi-Key; Supplier Part Number 1: PIC16F877A-I/PT-ND; Supplier 2: Farnell; Supplier Part Number 2: 9761454; Supplier 3: Farnell; Supplier Part Number 3: 9761454MPKG; Supplier 4: Farnell; Supplier Part Number 4: 1528478; Supplier 5: Newark; Supplier Part Number 5: 89C2873; Supplier 6: Mouser; Supplier Part Number 6: 579-PIC16F877A-I/PT; Code_JEDEC: MS-026; ComponentLink1Description: Manufacturer URL; ComponentLink1URL: http://www.microchip.com/; ComponentLink2Description: Datasheet; ComponentLink2URL: http://ww1.microchip.com/downloads/en/DeviceDoc/39582b.pdf; ComponentLink3Description: Package Specification; ComponentLink3URL: http://www.microchip.com/stellent/groups/techpub_sg/documents/packagingspec/en012702.pdf
footprint TQFP-PT44_N (Thin QFP, 44-Leads, Body 10x10mm, Pitch 0.8mm, IPC Medium Density)
footprint TQFP-PT44_L (Thin QFP, 44-Leads, Body 10x10mm, Pitch 0.8mm, IPC High Density)
footprint TQFP-PT44_M (Thin QFP, 44-Leads, Body 10x10mm, Pitch 0.8mm, IPC Low Density)
pins: 1 RC7/RX/DT (io), 2 RD4/PSP4 (io), 3 RD5/PSP5 (io), 4 RD6/PSP6 (io), 5 RD7/PSP7 (io), 6 VSS (power), 7 VDD (power), 8 RB0/INT (io), 9 RB1 (io), 10 RB2 (io), 11 RB3/PGM (io), 12 NC, 13 NC, 14 RB4 (io), 15 RB5 (io), 16 RB6/PGC (io), 17 RB7/PGD (io), 18 ~{MCLR}/VPP (in), 19 RA0/AN0 (io), 20 RA1/AN1 (io), 21 RA2/AN2/VREF-/CVREF (io), 22 RA3/AN3/VREF+ (io), 23 RA4/T0CKI/C1OUT (io), 24 RA5/AN4/~{SS}/C2OUT (io), 25 RE0/~{RD}/AN5 (io), 26 RE1/~{WR}/AN6 (io), 27 RE2/~{CS}/AN7 (io), 28 VDD (power), 29 VSS (power), 30 OSC1/CLKI (in), 31 OSC2/CLKO (out), 32 RC0/T1OSO/T1CKI (io), 33 NC, 34 NC, 35 RC1/T1OSI/CCP2 (io), 36 RC2/CCP1 (io), 37 RC3/SCK/SCL (io), 38 RD0/PSP0 (io), 39 RD1/PSP1 (io), 40 RD2/PSP2 (io), 41 RD3/PSP3 (io), 42 RC4/SDI/SDA (io), 43 RC5/SDO (io), 44 RC6/TX/CK (io)

## PIC16F877AT-E/PT
designator U?
Enhanced Flash Microcontroller, 8K (x14-Bit words) Program Memory, 624 Bytes Data Memory, 33 I/O pins, 44-Pin TQFP, Standard VDD Range, Extended Temperature, Tape and Reel; Manufacturer: Microchip; PartNumber: PIC16F877AT-E/PT; DatasheetVersion: revB, Oct-2003; PackageVersion: revBB, Aug-2009; PackageReference: TQFP-PT44; PackageDescription: 44-Lead Plastic Thin Quad Flatpack (PT) - 10x10x1mm Body, 2.00mm [TQFP]; Supplier 1: Mouser; Supplier Part Number 1: 579-PIC16F877AT-E/PT; Code_JEDEC: MS-026; ComponentLink1Description: Manufacturer URL; ComponentLink1URL: http://www.microchip.com/; ComponentLink2Description: Datasheet; ComponentLink2URL: http://ww1.microchip.com/downloads/en/DeviceDoc/39582b.pdf; ComponentLink3Description: Package Specification; ComponentLink3URL: http://www.microchip.com/stellent/groups/techpub_sg/documents/packagingspec/en012702.pdf
footprint TQFP-PT44_N (Thin QFP, 44-Leads, Body 10x10mm, Pitch 0.8mm, IPC Medium Density)
footprint TQFP-PT44_L (Thin QFP, 44-Leads, Body 10x10mm, Pitch 0.8mm, IPC High Density)
footprint TQFP-PT44_M (Thin QFP, 44-Leads, Body 10x10mm, Pitch 0.8mm, IPC Low Density)
pins: 1 RC7/RX/DT (io), 2 RD4/PSP4 (io), 3 RD5/PSP5 (io), 4 RD6/PSP6 (io), 5 RD7/PSP7 (io), 6 VSS (power), 7 VDD (power), 8 RB0/INT (io), 9 RB1 (io), 10 RB2 (io), 11 RB3/PGM (io), 12 NC, 13 NC, 14 RB4 (io), 15 RB5 (io), 16 RB6/PGC (io), 17 RB7/PGD (io), 18 ~{MCLR}/VPP (in), 19 RA0/AN0 (io), 20 RA1/AN1 (io), 21 RA2/AN2/VREF-/CVREF (io), 22 RA3/AN3/VREF+ (io), 23 RA4/T0CKI/C1OUT (io), 24 RA5/AN4/~{SS}/C2OUT (io), 25 RE0/~{RD}/AN5 (io), 26 RE1/~{WR}/AN6 (io), 27 RE2/~{CS}/AN7 (io), 28 VDD (power), 29 VSS (power), 30 OSC1/CLKI (in), 31 OSC2/CLKO (out), 32 RC0/T1OSO/T1CKI (io), 33 NC, 34 NC, 35 RC1/T1OSI/CCP2 (io), 36 RC2/CCP1 (io), 37 RC3/SCK/SCL (io), 38 RD0/PSP0 (io), 39 RD1/PSP1 (io), 40 RD2/PSP2 (io), 41 RD3/PSP3 (io), 42 RC4/SDI/SDA (io), 43 RC5/SDO (io), 44 RC6/TX/CK (io)

## PIC16F877AT-I/L
designator U?
Enhanced FLASH Microcontroller, 8K (x14-Bit words) FLASH, 368 Bytes RAM, 44-Pin PLCC, Standard VDD Range, Industrial Temperature, Tape and Reel; Manufacturer: Microchip; PartNumber: PIC16F877AT-I/L; DatasheetVersion: revB, Oct-2003; PackageVersion: revBB, Aug-2009; PackageReference: PLCC-L44; PackageDescription: 44-Lead Plastic Leaded Chip Carrier (L) - Square [PLCC]; Supplier 1: Digi-Key; Supplier Part Number 1: PIC16F877AT-I/L-ND; Supplier 2: Mouser; Supplier Part Number 2: 579-PIC16F877AT-I/L; Code_JEDEC: MO-047; Code_IPC: PLCC-44; ComponentLink1Description: Manufacturer URL; ComponentLink1URL: http://www.microchip.com/; ComponentLink2Description: Datasheet; ComponentLink2URL: http://ww1.microchip.com/downloads/en/DeviceDoc/39582b.pdf; ComponentLink3Description: Package Specification; ComponentLink3URL: http://www.microchip.com/stellent/groups/techpub_sg/documents/packagingspec/en012702.pdf
footprint PLCC-L44_N (Leaded Chip Carrier, 44-Leads, Body 16.6x16.6mm, Pitch 1.27mm, IPC Medium Density)
footprint PLCC-L44_L (Leaded Chip Carrier, 44-Leads, Body 16.6x16.6mm, Pitch 1.27mm, IPC High Density)
footprint PLCC-L44_M (Leaded Chip Carrier, 44-Leads, Body 16.6x16.6mm, Pitch 1.27mm, IPC Low Density)
pins: 1 NC, 2 ~{MCLR}/VPP (in), 3 RA0/AN0 (io), 4 RA1/AN1 (io), 5 RA2/AN2/VREF-/CVREF (io), 6 RA3/AN3/VREF+ (io), 7 RA4/T0CKI/C1OUT (io), 8 RA5/AN4/~{SS}/C2OUT (io), 9 RE0/~{RD}/AN5 (io), 10 RE1/~{WR}/AN6 (io), 11 RE2/~{CS}/AN7 (io), 12 VDD (power), 13 VSS (power), 14 OSC1/CLKI (in), 15 OSC2/CLKO (out), 16 RC0/T1OSO/T1CK1 (io), 17 NC, 18 RC1/T1OSI/CCP2 (io), 19 RC2/CCP1 (io), 20 RC3/SCK/SCL (io), 21 RD0/PSP0 (io), 22 RD1/PSP1 (io), 23 RD2/PSP2 (io), 24 RD3/PSP3 (io), 25 RC4/SDI/SDA (io), 26 RC5/SDO (io), 27 RC6/TX/CK (io), 28 NC, 29 RC7/RX/DT (io), 30 RD4/PSP4 (io), 31 RD5/PSP5 (io), 32 RD6/PSP6 (io), 33 RD7/PSP7 (io), 34 VSS (power), 35 VDD (power), 36 RB0/INT (io), 37 RB1 (io), 38 RB2 (io), 39 RB3/PGM (io), 40 NC, 41 RB4 (io), 42 RB5 (io), 43 RB6/PGC (io), 44 RB7/PGD (io)

## PIC16F877AT-I/ML
designator U?
Enhanced Flash Microcontroller, 8K (x14-Bit words) Program Memory, 624 Bytes Data Memory, 33 I/O pins, 44-Pin QFN, Standard VDD Range, Industrial Temperature, Tape and Reel; Manufacturer: Microchip; PartNumber: PIC16F877AT-I/ML; DatasheetVersion: revB, Oct-2003; PackageVersion: revBB, Aug-2009; PackageReference: QFN-ML44; PackageDescription: 44-Lead Plastic Quad Flat, No Lead Package (ML) - 8x8 mm Body [QFN]; Supplier 1: Digi-Key; Supplier Part Number 1: PIC16F877AT-I/ML-ND; Supplier 2: Mouser; Supplier Part Number 2: 579-PIC16F877AT-I/ML; Code_JEDEC: MO-220; Code_IPC: QFN65P800X800-44V2; ComponentLink1Description: Manufacturer URL; ComponentLink1URL: http://www.microchip.com/; ComponentLink2Description: Datasheet; ComponentLink2URL: http://ww1.microchip.com/downloads/en/DeviceDoc/39582b.pdf; ComponentLink3Description: Package Specification; ComponentLink3URL: http://www.microchip.com/stellent/groups/techpub_sg/documents/packagingspec/en012702.pdf
footprint QFN-ML44_N (QFN, 44-Leads, Body 8x8mm, Pitch 0.65mm, Thermal Pad 6.8x6.8mm, IPC Medium Density)
footprint QFN-ML44_L (QFN, 44-Leads, Body 8x8mm, Pitch 0.65mm, Thermal Pad 6.8x6.8mm, IPC High Density)
footprint QFN-ML44_M (QFN, 44-Leads, Body 8x8mm, Pitch 0.65mm, Thermal Pad 6.8x6.8mm, IPC Low Density)
pins: 1 RC7/RX/DT (io), 2 RD4/PSP4 (io), 3 RD5/PSP5 (io), 4 RD6/PSP6 (io), 5 RD7/PSP7 (io), 6 VSS (power), 7 VDD (power), 8 VDD (power), 9 RB0/INT (io), 10 RB1 (io), 11 RB2 (io), 12 RB3/PGM (io), 13 NC, 14 RB4 (io), 15 RB5 (io), 16 RB6/PGC (io), 17 RB7/PGD (io), 18 ~{MCLR}/VPP (in), 19 RA0/AN0 (io), 20 RA1/AN1 (io), 21 RA2/AN2/VREF-/CVREF (io), 22 RA3/AN3/VREF+ (io), 23 RA4/T0CKI/C1OUT (io), 24 RA5/AN4/~{SS}/C2OUT (io), 25 RE0/~{RD}/AN5 (io), 26 RE1/~{WR}/AN6 (io), 27 RE2/~{CS}/AN7 (io), 28 VDD (power), 29 VDD (power), 30 VSS (power), 31 VSS (power), 32 OSC1/CLKI (in), 33 OSC2/CLKO (out), 34 RC0/T1OSO/T1CKI (io), 35 RC1/T1OSI/CCP2 (io), 36 RC2/CCP1 (io), 37 RC3/SCK/SCL (io), 38 RD0/PSP0 (io), 39 RD1/PSP1 (io), 40 RD2/PSP2 (io), 41 RD3/PSP3 (io), 42 RC4/SDI/SDA (io), 43 RC5/SDO (io), 44 RC6/TX/CK (io), 45 Thermal Pad

## PIC16F877AT-I/PT
designator U?
Enhanced FLASH Microcontroller, 8K (x14-Bit words) FLASH, 368 Bytes RAM, 44-Pin TQFP, Standard VDD Range, Industrial Temperature, Tape and Reel; Manufacturer: Microchip; PartNumber: PIC16F877AT-I/PT; Note: The CCP1 pin is determined by CCPMX in Configuration Word 1 register.; DatasheetVersion: revB, Oct-2003; PackageVersion: revBB, Aug-2009; PackageReference: TQFP-PT44; PackageDescription: 44-Lead Plastic Thin Quad Flatpack (PT) - 10x10x1mm Body, 2.00mm [TQFP]; Supplier 1: Digi-Key; Supplier Part Number 1: PIC16F877AT-I/PT-ND; Supplier 2: Newark; Supplier Part Number 2: 92C4713; Supplier 3: Mouser; Supplier Part Number 3: 579-PIC16F877AT-I/PT; Code_JEDEC: MS-026; ComponentLink1Description: Manufacturer URL; ComponentLink1URL: http://www.microchip.com/; ComponentLink2Description: Datasheet; ComponentLink2URL: http://ww1.microchip.com/downloads/en/DeviceDoc/39582b.pdf; ComponentLink3Description: Package Specification; ComponentLink3URL: http://www.microchip.com/stellent/groups/techpub_sg/documents/packagingspec/en012702.pdf
footprint TQFP-PT44_N (Thin QFP, 44-Leads, Body 10x10mm, Pitch 0.8mm, IPC Medium Density)
footprint TQFP-PT44_L (Thin QFP, 44-Leads, Body 10x10mm, Pitch 0.8mm, IPC High Density)
footprint TQFP-PT44_M (Thin QFP, 44-Leads, Body 10x10mm, Pitch 0.8mm, IPC Low Density)
pins: 1 RC7/RX/DT (io), 2 RD4/PSP4 (io), 3 RD5/PSP5 (io), 4 RD6/PSP6 (io), 5 RD7/PSP7 (io), 6 VSS (power), 7 VDD (power), 8 RB0/INT (io), 9 RB1 (io), 10 RB2 (io), 11 RB3/PGM (io), 12 NC, 13 NC, 14 RB4 (io), 15 RB5 (io), 16 RB6/PGC (io), 17 RB7/PGD (io), 18 ~{MCLR}/VPP (in), 19 RA0/AN0 (io), 20 RA1/AN1 (io), 21 RA2/AN2/VREF-/CVREF (io), 22 RA3/AN3/VREF+ (io), 23 RA4/T0CKI/C1OUT (io), 24 RA5/AN4/~{SS}/C2OUT (io), 25 RE0/~{RD}/AN5 (io), 26 RE1/~{WR}/AN6 (io), 27 RE2/~{CS}/AN7 (io), 28 VDD (power), 29 VSS (power), 30 OSC1/CLKI (in), 31 OSC2/CLKO (out), 32 RC0/T1OSO/T1CKI (io), 33 NC, 34 NC, 35 RC1/T1OSI/CCP2 (io), 36 RC2/CCP1 (io), 37 RC3/SCK/SCL (io), 38 RD0/PSP0 (io), 39 RD1/PSP1 (io), 40 RD2/PSP2 (io), 41 RD3/PSP3 (io), 42 RC4/SDI/SDA (io), 43 RC5/SDO (io), 44 RC6/TX/CK (io)

## PIC16F882-E/ML
designator U?
Flash-Based, 8-Bit CMOS Microcontroller with nanoWatt Technology, 2K (x14-Bit words) Program Memory, 256 Bytes Data Memory, 24 I/O pins, 28-Pin QFN, Standard VDD Range, Extended Temperature; Manufacturer: Microchip; PartNumber: PIC16F882-E/ML; DatasheetVersion: revF, Apr-2009; PackageVersion: revBB, Aug-2009; PackageReference: QFN-ML28; PackageDescription: 28-Lead Plastic Quad Flat, No Lead Package (ML) - 6x6 mm Body [QFN] with 0.55 mm Contact Length; Supplier 1: Digi-Key; Supplier Part Number 1: PIC16F882-E/ML-ND; Supplier 2: Mouser; Supplier Part Number 2: 579-PIC16F882-E/ML; Code_JEDEC: MO-220; ComponentLink1Description: Manufacturer URL; ComponentLink1URL: http://www.microchip.com/; ComponentLink2Description: Datasheet; ComponentLink2URL: http://ww1.microchip.com/downloads/en/DeviceDoc/41291F.pdf; ComponentLink3Description: Package Specification; ComponentLink3URL: http://www.microchip.com/stellent/groups/techpub_sg/documents/packagingspec/en012702.pdf
footprint QFN-ML28_N (QFN, 28-Leads, Body 6x6mm, Pitch 0.65mm, Thermal Pad 4.2x4.2mm, IPC Medium Density)
footprint QFN-ML28_L (QFN, 28-Leads, Body 6x6mm, Pitch 0.65mm, Thermal Pad 4.2x4.2mm, IPC High Density)
footprint QFN-ML28_M (QFN, 28-Leads, Body 6x6mm, Pitch 0.65mm, Thermal Pad 4.2x4.2mm, IPC Low Density)
pins: 1 RA2/AN2/VREF-/CVREF/C2IN+ (io), 2 RA3/AN3/VREF+/C1IN+ (io), 3 RA4/T0CKI/C1OUT (io), 4 RA5/AN4/~{SS}/C2OUT (io), 5 VSS (power), 6 RA7/OSC1/CLKIN (io), 7 RA6/OSC2/CLKOUT (io), 8 RC0/T1OSO/T1CKI (io), 9 RC1/T1OSI/CCP2 (io), 10 RC2/P1A/CCP1 (io), 11 RC3/SCK/SCL (io), 12 RC4/SDI/SDA (io), 13 RC5/SDO (io), 14 RC6/TX/CK (io), 15 RC7/RX/DT (io), 16 VSS (power), 17 VDD (power), 18 RB0/AN12/INT (io), 19 RB1/AN10/P1C/C12IN3- (io), 20 RB2/AN8/P1B (io), 21 RB3/AN9/PGM/C12IN2- (io), 22 RB4/AN11/P1D (io), 23 RB5/AN13/~{T1G} (io), 24 RB6/ICSPCLK (io), 25 RB7/ICSPDAT (io), 26 RE3/~{MCLR}/VPP (io), 27 RA0/AN0/ULPWU/C12IN0- (io), 28 RA1/AN1/C12IN1- (io), 29 Thermal Pad